# EAGLE library part RV-3028-C7 (library ICs)
Extreme Low Power RTC Module Supply Voltage: 1.2 V 〜 5.5 V Operating Temperature: - 40 C 〜 + 85 C 3.2 mm x 1.5 mm
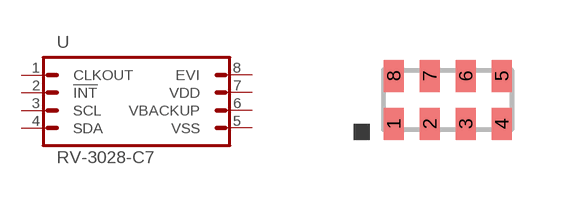
[diagram p5: symbol with the pads of SON-8; footprint SON-8]

Designator prefix U

## RV-3028-C7  [SON-8]
1  CLKOUT
2  !INT!
3  SCL
4  SDA
5  VSS  pas
6  VBACKUP  pas
7  VDD  pas
8  EVI

## Footprint SON-8 (pad centres in mm)
8-Lead Dual Flat No Lead Package 3.2 x 1.5 mm Body (DFN-8)
smd 0.5 x 0.8: 1 0.25,0.4; 2 1.15,0.4; 3 2.05,0.4; 4 2.95,0.4; 5 2.95,1.6; 6 2.05,1.6; 7 1.15,1.6; 8 0.25,1.6